# Altium footprint library PcbLib3.PcbLib: 9 footprints
Each footprint in its own frame and in the unit in brackets; x right, y up, seen from the top. Pads: shape width x height; smd on the part's side, far side on the other; paste and mask are expansions set on the pad; w line width, h text height; cw(c..) or ccw(c..) is an arc to the next point about the centre after c.
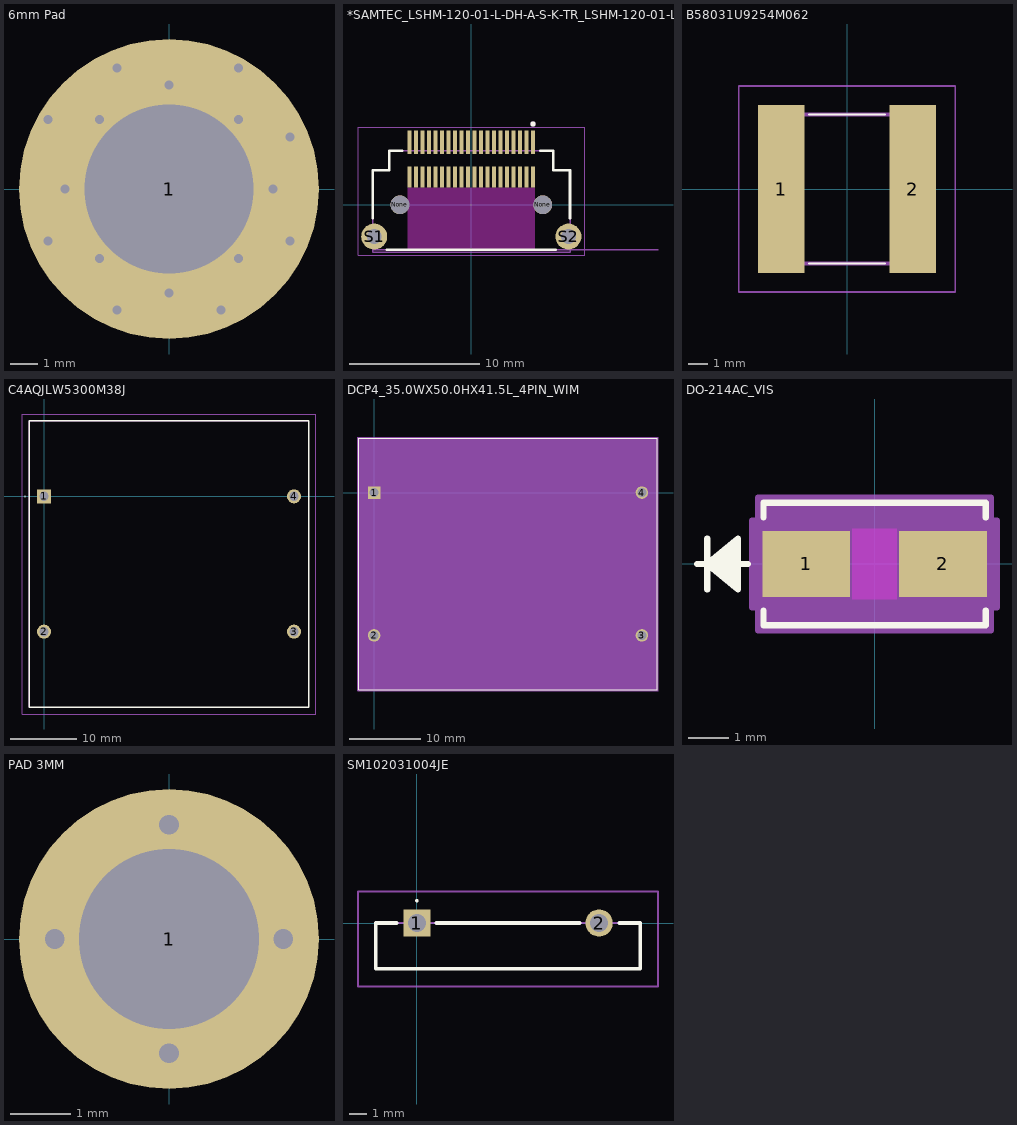
[diagram p0: the footprints below, top view; thin cyan lines are the x and y axes]

## 6mm Pad [mm]
pads (1):
  round 11 hole 6.2 paste+0 mask+0.2: 1(0,0)
via -2.54,2.54 diameter 0.635 hole 0.33
via -3.81,0 diameter 0.635 hole 0.33
via -2.54,-2.54 diameter 0.635 hole 0.33
via 0,-3.81 diameter 0.635 hole 0.33
via 2.54,-2.54 diameter 0.635 hole 0.33
via 3.81,0 diameter 0.635 hole 0.33
via 2.54,2.54 diameter 0.635 hole 0.33
via 0,3.81 diameter 0.635 hole 0.33
via -1.905,4.445 diameter 0.635 hole 0.33
via 2.54,4.445 diameter 0.635 hole 0.33
via 4.445,1.905 diameter 0.635 hole 0.33
via 4.445,-1.905 diameter 0.635 hole 0.33
via 1.905,-4.445 diameter 0.635 hole 0.33
via -1.905,-4.445 diameter 0.635 hole 0.33
via -4.445,-1.905 diameter 0.635 hole 0.33
via -4.445,2.54 diameter 0.635 hole 0.33

## *SAMTEC_LSHM-120-01-L-DH-A-S-K-TR_LSHM-120-01-L-DH-A-S-K-TR(Primary) [mm]
pads (44):
  rect 0.3x1.8 smd: 01(4.75,4.81) 03(4.25,4.81) 05(3.75,4.81) 07(3.25,4.81) 09(2.75,4.81) 11(2.25,4.81) 13(1.75,4.81) 15(1.25,4.81) 17(0.75,4.81) 19(0.25,4.81) 21(-0.25,4.81) 23(-0.75,4.81) 25(-1.25,4.81) 27(-1.75,4.81) 29(-2.25,4.81) 31(-2.75,4.81) 33(-3.25,4.81) 35(-3.75,4.81) 37(-4.25,4.81) 39(-4.75,4.81)
  rect 0.3x1.63 smd: 02(4.75,2.135) 04(4.25,2.135) 06(3.75,2.135) 08(3.25,2.135) 10(2.75,2.135) 12(2.25,2.135) 14(1.75,2.135) 16(1.25,2.135) 18(0.75,2.135) 20(0.25,2.135) 22(-0.25,2.135) 24(-0.75,2.135) 26(-1.25,2.135) 28(-1.75,2.135) 30(-2.25,2.135) 32(-2.75,2.135) 34(-3.25,2.135) 36(-3.75,2.135) 38(-4.25,2.135) 40(-4.75,2.135)
  round 1.45 hole 1.45 unplated: None(-5.5,0) None(5.5,0)
  round 2 hole 1.15: S1(-7.475,-2.45) S2(7.475,-2.45)
Top Overlay:
  circle w0.2: c4.75,6.23 r0.1
  lines w0.2: -7.6,-1.03 -7.6,2.65 -6.315,2.65 -6.315,4.15 -5.32,4.15 ; -6.5,-3.47 6.5,-3.47 ; 5.32,4.15 6.315,4.15 6.315,2.65 7.6,2.65 7.6,-1.03
Top Paste:
  circle w1: c7.475,-2.45 r0.5
  circle w1: c-7.475,-2.45 r0.5
Keep-Out Layer:
  region: -4.9,1.32 4.9,1.32 4.9,-3.47 -4.9,-3.47
  region: -4.9,1.32 4.9,1.32 4.9,-3.47 -4.9,-3.47
  region: -4.9,1.32 4.9,1.32 4.9,-3.47 -4.9,-3.47
  region: -4.9,1.32 4.9,1.32 4.9,-3.47 -4.9,-3.47
  region: -4.9,1.32 4.9,1.32 4.9,-3.47 -4.9,-3.47
  region: -4.9,1.32 4.9,1.32 4.9,-3.47 -4.9,-3.47
Mechanical 4:
  circle w0.2: c4.75,6.23 r0.1
  circle w0.2: c4.75,6.23 r0.1
  lines w0.1: -7.6,-3.65 7.6,-3.65 ; -7.6,-3.65 -7.6,-3.47 ; -7.6,-3.65 7.6,-3.65 ; -7.6,-3.65 -7.6,-3.47 ; -7.6,-3.47 -7.6,2.65 ; -7.6,-3.47 14.375,-3.47 -7.6,-3.47 ; -7.6,-3.47 -7.6,2.65 ; -7.6,2.65 -6.315,2.65 ; -7.6,2.65 -6.315,2.65 ; -6.315,2.65 -6.315,4.15 ; -6.315,2.65 -6.315,4.15 ; -6.315,4.15 6.315,4.15 ; -6.315,4.15 6.315,4.15 ; 6.315,2.65 7.6,2.65 ; 6.315,2.65 6.315,4.15 ; 6.315,2.65 7.6,2.65 ; 6.315,2.65 6.315,4.15 ; 7.6,-3.65 7.6,2.65 ; 7.6,-3.65 7.6,2.65
  text "PCB EDGE" at 8.875,-3.595 h1.88
  text "PCB EDGE" at 8.875,-3.595 h1.88
Mechanical 16:
  lines w0.05: -8.725,-3.9 8.725,-3.9 8.725,5.96 -8.725,5.96 -8.725,-3.9
3D body "LSHM-120-01-L-DH-A-S-K-TR.stp": height 5.26, standoff -1.8, extent -7.901,-3.395 7.901,5.604

## B58031U9254M062 [mm]
pads (2):
  rect 2.45x8.85 smd mask+0.1: 1(-3.475,0) 2(3.475,0)
Top Overlay:
  lines w0.1: -2,-3.925 2,-3.925 ; -2,3.925 2,3.925
Mechanical 13:
  lines w0.2: -3.57,-3.925 -3.57,3.925 3.57,3.925 3.57,-3.925 -3.57,-3.925
Mechanical 15:
  lines w0.1: -5.7,-5.425 -5.7,5.425 5.7,5.425 5.7,-5.425 -5.7,-5.425
3D body "B58031U9254M062.stp": height 4, standoff 0, extent -3.57,-3.925 3.57,3.925

## C4AQJLW5300M38J [mm]
pads (4):
  rect 2.1x2.1 hole 1.4: 1(0,0)
  round 2.1 hole 1.4: 2(0,-20.3) 3(37.5,-20.3) 4(37.5,0)
Top Overlay:
  lines w0.1: -2.9,0 ccw(c-2.85,0) -2.8,0 ccw(c-2.85,0) -2.9,0
  lines w0.2: -2.25,-31.65 39.75,-31.65 39.75,11.35 -2.25,11.35 -2.25,-31.65
Mechanical 13:
  lines w0.1: -2.25,-31.65 39.75,-31.65 39.75,11.35 -2.25,11.35 -2.25,-31.65
Mechanical 15:
  lines w0.1: -3.25,-32.65 40.75,-32.65 40.75,12.35 -3.25,12.35 -3.25,-32.65
3D body "C4AQJLW5300M38J.stp": height 26.36, standoff -4.84, extent -2.55,-31.855 40.05,11.55

## DCP4_35.0WX50.0HX41.5L_4PIN_WIM [mil]
pads (4):
  rect 69x69 / inner round 60 / far side rect 69x69 hole 49 paste-99999 mask+0: 1(0,0)
  round 69 / inner round 60 / far side round 69 hole 49 paste-99999 mask+0: 2(0,-787.4) 3(1476.38,-787.4) 4(1476.38,0)
Top Overlay:
  lines w6: -83.81,-1087.7 -83.81,300.3 1560.19,300.3 1560.19,-1087.7 -83.81,-1087.7
Mechanical 13:
  lines w1: -78.81,-1082.7 -78.81,295.3 1555.19,295.3 1555.19,-1082.7 -78.81,-1082.7
Mechanical 15:
  region: 1565.19,-1092.7 -88.81,-1092.7 -88.81,305.3 1565.19,305.3
  lines w6: -88.81,-1092.7 1565.19,-1092.7 1565.19,305.3 -88.81,305.3 -88.81,-1092.7
3D body: height 1968.5, standoff 0, extent -75,-1075 1550,275

## DO-214AC_VIS [mil]
pads (2):
  rect 86x65 smd paste+0 mask+0: 1(-67,0) 2(67,0)
Top Overlay:
  lines w6: -174,0 -124,0 ; -164,-25 -164,25 ; -134,-20 -164,0 ; -134,-15 -164,0 ; -134,-10 -164,0 ; -134,-5 -164,0 ; -134,5 -164,0 ; -134,10 -164,0 ; -134,15 -164,0 ; -134,20 -164,0 ; -109,-45.6 -109,-60 109,-60 109,-45.6 ; -109,45.6 -109,60 109,60 109,45.6 ; -164,0 -134,25 -134,-25 -164,0
Keep-Out Layer:
  region: -22,-34.5 -22,34.5 22,34.5 22,-34.5
Mechanical 13:
  lines w1: -174,0 -124,0 ; -164,-25 -164,25 ; -134,-20 -164,0 ; -134,-15 -164,0 ; -134,-10 -164,0 ; -134,-5 -164,0 ; -134,5 -164,0 ; -134,10 -164,0 ; -134,15 -164,0 ; -134,20 -164,0 ; -164,0 -134,25 -134,-25 -164,0 ; -104,-55 104,-55 104,55 -104,55 -104,-55
Mechanical 15:
  region: -114,-42.5 -120,-42.5 -120,42.5 -114,42.5 -114,65 114,65 114,42.5 120,42.5 120,-42.5 114,-42.5 114,-65 -114,-65
  lines w6: -120,-42.5 -120,42.5 -114,42.5 -114,65 114,65 114,42.5 120,42.5 120,-42.5 114,-42.5 114,-65 -114,-65 -114,-42.5 -120,-42.5
3D body "DO-214AC_VIS.step": height 92.01, standoff 0, extent -104.02,-55 104.02,55

## PAD 3MM [mm]
pads (1):
  round 5 hole 3 paste+0 mask+0.2: 1(0,0)
via 0,-1.905 diameter 0.635 hole 0.33
via 0,1.905 diameter 0.635 hole 0.33
via 1.905,0 diameter 0.635 hole 0.33
via -1.905,0 diameter 0.635 hole 0.33

## PCBComponent_1 [mm]

## SM102031004JE [mm]
pads (2):
  rect 1.519x1.519 hole 1.013: 1(0,0)
  round 1.519 hole 1.013: 2(10.16,0)
Top Overlay:
  lines w0.1: 0,1.2 ccw(c0,1.25) 0,1.3 ccw(c0,1.25) 0,1.2
  lines w0.2: -1.12,0 -2.285,0 -2.285,-2.54 12.445,-2.54 12.445,0 11.28,0 ; 1.08,0 9.08,0
Mechanical 13:
  lines w0.1: -2.285,-2.54 12.445,-2.54 12.445,0 -2.285,0 -2.285,-2.54
Mechanical 15:
  lines w0.1: -3.285,-3.54 13.445,-3.54 13.445,1.76 -3.285,1.76 -3.285,-3.54
3D body "SM102031004JE.stp": height 9.32, standoff -2.37, extent -2.286,-2.16 12.446,0.381